# Altium schematic symbol library Socket 3X2.SchLib: 1 symbol
Pins are listed as number, name and electrical type; pins without a type are passive.

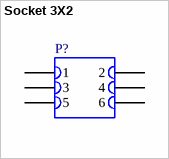
[diagram p0: symbol Socket 3X2]

## Socket 3X2
designator P?
Socket, 3-Pin, Dual row
pins: 1, 2, 3, 4, 5, 6